# Altium schematic symbol library SCH_Connector.SchLib: 14 symbols
Pins are listed as number, name and electrical type; pins without a type are passive.

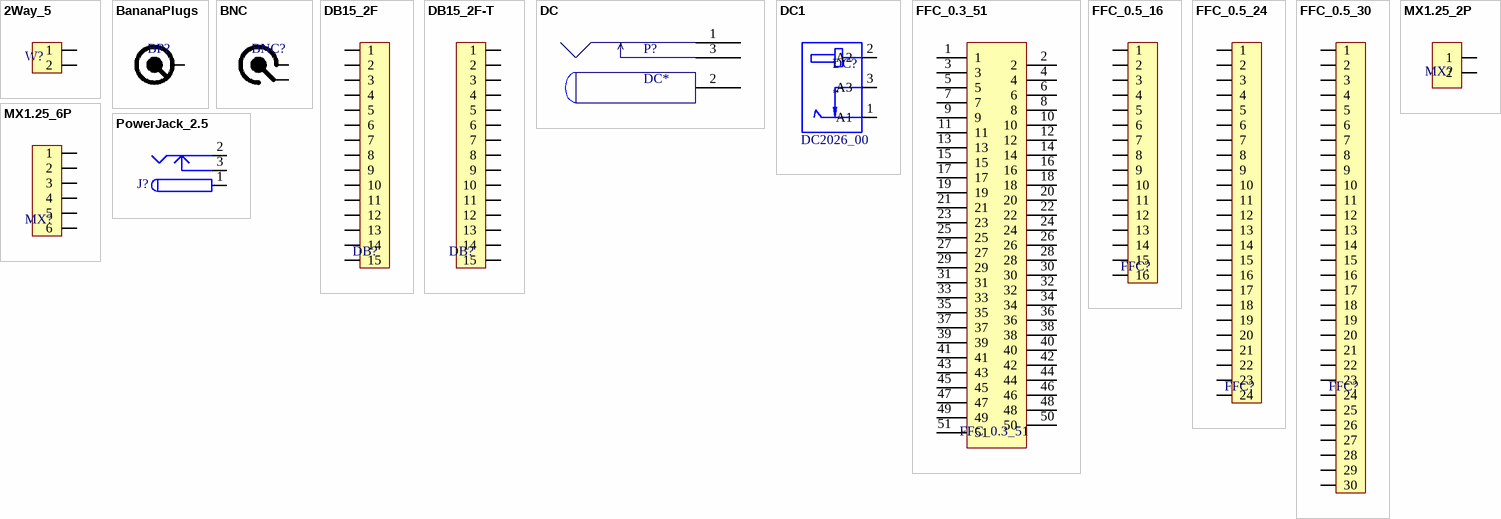
[diagram p0: symbols 2Way_5 to PowerJack_2.5]

## 2Way_5
designator W?  (value not drawn)
DB
footprint 2Way_5
pins: 1, 2

## BananaPlugs
designator BP?  (value not drawn)
footprint BananaPlugs_Red
footprint BananaPlugs_Black
pins: 1

## BNC
designator BNC?  (value not drawn)
footprint BNC_4P
pins: 1, 2

## DB15_2F
designator DB?  (value not drawn)
DB
footprint DB15_2F
pins: 1, 2, 3, 4, 5, 6, 7, 8, 9, 10, 11, 12, 13, 14, 15

## DB15_2F-T
designator DB?  (value not drawn)
DB
footprint DB15_2F
pins: 1, 2, 3, 4, 5, 6, 7, 8, 9, 10, 11, 12, 13, 14, 15

## DC
designator P?, comment DC*
DC?
footprint DC003A
pins: 1, 2, 3

## DC1
designator DC?  DEVICE: DC2026_00
DC?
footprint PCBComponent_1
pins: 1 A1, 2 A2, 3 A3

## FFC_0.3_51
designator FFC_0.3_51  (value not drawn)
FFC
footprint FFC_0.3_51
pins: 1, 2, 3, 4, 5, 6, 7, 8, 9, 10, 11, 12, 13, 14, 15, 16, 17, 18, 19, 20, 21, 22, 23, 24, 25, 26, 27, 28, 29, 30, 31, 32, 33, 34, 35, 36, 37, 38, 39, 40, 41, 42, 43, 44, 45, 46, 47, 48, 49, 50, 51

## FFC_0.5_16
designator FFC?  (value not drawn)
FFC
footprint FFC_0.5_16
pins: 1, 2, 3, 4, 5, 6, 7, 8, 9, 10, 11, 12, 13, 14, 15, 16

## FFC_0.5_24
designator FFC?  (value not drawn)
FFC
footprint FFC_0.5_24 (Connector; FH12 Series; 24 Position; 0.5mm Spaced Bottom Contact)
pins: 1, 2, 3, 4, 5, 6, 7, 8, 9, 10, 11, 12, 13, 14, 15, 16, 17, 18, 19, 20, 21, 22, 23, 24

## FFC_0.5_30
designator FFC?  (value not drawn)
FFC
footprint FFC_0.5_30
pins: 1, 2, 3, 4, 5, 6, 7, 8, 9, 10, 11, 12, 13, 14, 15, 16, 17, 18, 19, 20, 21, 22, 23, 24, 25, 26, 27, 28, 29, 30

## MX1.25_2P
designator MX?  (value not drawn)
MX
footprint MX1.25_S90_2P
pins: 1, 2

## MX1.25_6P
designator MX?  (value not drawn)
MX
footprint MX1.25_S90_6P
pins: 1, 2, 3, 4, 5, 6

## PowerJack_2.5
designator J?  (value not drawn)
DC Power Jack
footprint KLD_0202
pins: 1 (power), 2 (power), 3 (power)